# Altium footprint library relay_c_meter.PcbLib: 1 footprints
Each footprint in its own frame and in the unit in brackets; x right, y up, seen from the top. Pads: shape width x height; smd on the part's side, far side on the other; paste and mask are expansions set on the pad; w line width, h text height; cw(c..) or ccw(c..) is an arc to the next point about the centre after c.
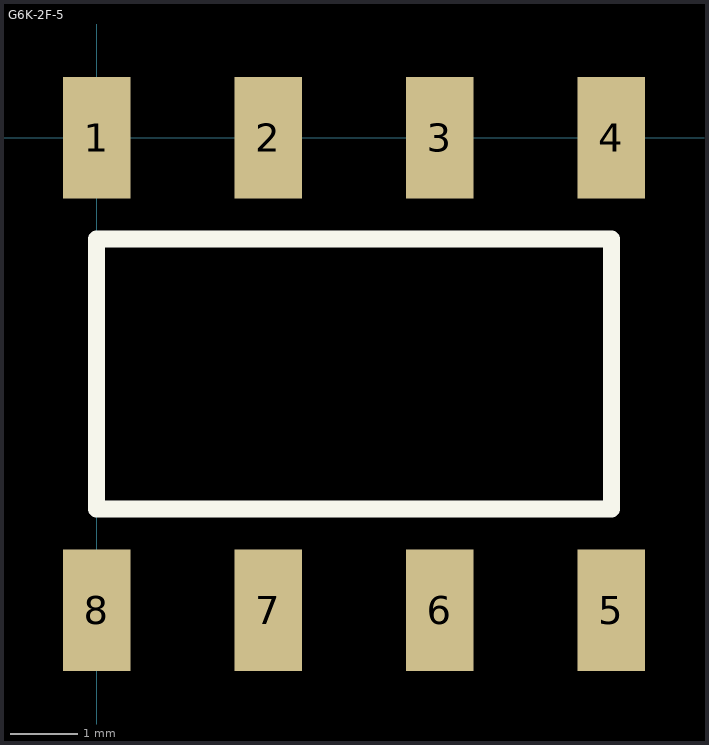
[diagram p0: the footprint, top view; thin cyan lines are the x and y axes]

## G6K-2F-5 [mm] "Relay"
pads (8):
  rect 1x1.8 smd: 1(0,0) 2(2.54,0) 3(5.08,0) 4(7.62,0) 5(7.62,-7) 6(5.08,-7) 7(2.54,-7) 8(0,-7)
Top Overlay:
  lines w0.254: 0,-5.5 0,-1.5 7.62,-1.5 7.62,-5.5 0,-5.5